# Altium footprint library BusinessCard.PcbLib: 2 footprints
Each footprint in its own frame and in the unit in brackets; x right, y up, seen from the top. Pads: shape width x height; smd on the part's side, far side on the other; paste and mask are expansions set on the pad; w line width, h text height; cw(c..) or ccw(c..) is an arc to the next point about the centre after c.
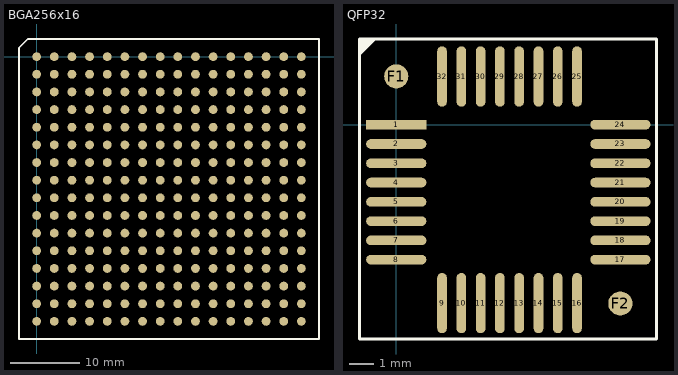
[diagram p0: the footprints below, top view; thin cyan lines are the x and y axes]

## BGA256x16 [mil]
pads (256):
  round 50 smd: A1(0,0) A2(100,0) A3(200,0) A4(300,0) A5(400,0) A6(500,0) A7(600,0) A8(700,0) A9(800,0) A10(900,0) A11(1000,0) A12(1100,0) A13(1200,0) A14(1300,0) A15(1400,0) A16(1500,0) B1(0,-100) B2(100,-100) B3(200,-100) B4(300,-100) B5(400,-100) B6(500,-100) B7(600,-100) B8(700,-100) B9(800,-100) B10(900,-100) B11(1000,-100) B12(1100,-100) B13(1200,-100) B14(1300,-100) B15(1400,-100) B16(1500,-100) C1(0,-200) C2(100,-200) C3(200,-200) C4(300,-200) C5(400,-200) C6(500,-200) C7(600,-200) C8(700,-200) C9(800,-200) C10(900,-200) C11(1000,-200) C12(1100,-200) C13(1200,-200) C14(1300,-200) C15(1400,-200) C16(1500,-200) D1(0,-300) D2(100,-300) D3(200,-300) D4(300,-300) D5(400,-300) D6(500,-300) D7(600,-300) D8(700,-300) D9(800,-300) D10(900,-300) D11(1000,-300) D12(1100,-300) D13(1200,-300) D14(1300,-300) D15(1400,-300) D16(1500,-300) E1(0,-400) E2(100,-400) E3(200,-400) E4(300,-400) E5(400,-400) E6(500,-400) E7(600,-400) E8(700,-400) E9(800,-400) E10(900,-400) E11(1000,-400) E12(1100,-400) E13(1200,-400) E14(1300,-400) E15(1400,-400) E16(1500,-400) F1(0,-500) F2(100,-500) F3(200,-500) F4(300,-500) F5(400,-500) F6(500,-500) F7(600,-500) F8(700,-500) F9(800,-500) F10(900,-500) F11(1000,-500) F12(1100,-500) F13(1200,-500) F14(1300,-500) F15(1400,-500) F16(1500,-500) G1(0,-600) G2(100,-600) G3(200,-600) G4(300,-600) G5(400,-600) G6(500,-600) G7(600,-600) G8(700,-600) G9(800,-600) G10(900,-600) G11(1000,-600) G12(1100,-600) G13(1200,-600) G14(1300,-600) G15(1400,-600) G16(1500,-600) H1(0,-700) H2(100,-700) H3(200,-700) H4(300,-700) H5(400,-700) H6(500,-700) H7(600,-700) H8(700,-700) H9(800,-700) H10(900,-700) H11(1000,-700) H12(1100,-700) H13(1200,-700) H14(1300,-700) H15(1400,-700) H16(1500,-700) J1(0,-800) J2(100,-800) J3(200,-800) J4(300,-800) J5(400,-800) J6(500,-800) J7(600,-800) J8(700,-800) J9(800,-800) J10(900,-800) J11(1000,-800) J12(1100,-800) J13(1200,-800) J14(1300,-800) J15(1400,-800) J16(1500,-800) K1(0,-900) K2(100,-900) K3(200,-900) K4(300,-900) K5(400,-900) K6(500,-900) K7(600,-900) K8(700,-900) K9(800,-900) K10(900,-900) K11(1000,-900) K12(1100,-900) K13(1200,-900) K14(1300,-900) K15(1400,-900) K16(1500,-900) L1(0,-1000) L2(100,-1000) L3(200,-1000) L4(300,-1000) L5(400,-1000) L6(500,-1000) L7(600,-1000) L8(700,-1000) L9(800,-1000) L10(900,-1000) L11(1000,-1000) L12(1100,-1000) L13(1200,-1000) L14(1300,-1000) L15(1400,-1000) L16(1500,-1000) M1(0,-1100) M2(100,-1100) M3(200,-1100) M4(300,-1100) M5(400,-1100) M6(500,-1100) M7(600,-1100) M8(700,-1100) M9(800,-1100) M10(900,-1100) M11(1000,-1100) M12(1100,-1100) M13(1200,-1100) M14(1300,-1100) M15(1400,-1100) M16(1500,-1100) N1(0,-1200) N2(100,-1200) N3(200,-1200) N4(300,-1200) N5(400,-1200) N6(500,-1200) N7(600,-1200) N8(700,-1200) N9(800,-1200) N10(900,-1200) N11(1000,-1200) N12(1100,-1200) N13(1200,-1200) N14(1300,-1200) N15(1400,-1200) N16(1500,-1200) P1(0,-1300) P2(100,-1300) P3(200,-1300) P4(300,-1300) P5(400,-1300) P6(500,-1300) P7(600,-1300) P8(700,-1300) P9(800,-1300) P10(900,-1300) P11(1000,-1300) P12(1100,-1300) P13(1200,-1300) P14(1300,-1300) P15(1400,-1300) P16(1500,-1300) R1(0,-1400) R2(100,-1400) R3(200,-1400) R4(300,-1400) R5(400,-1400) R6(500,-1400) R7(600,-1400) R8(700,-1400) R9(800,-1400) R10(900,-1400) R11(1000,-1400) R12(1100,-1400) R13(1200,-1400) R14(1300,-1400) R15(1400,-1400) R16(1500,-1400) T1(0,-1500) T2(100,-1500) T3(200,-1500) T4(300,-1500) T5(400,-1500) T6(500,-1500) T7(600,-1500) T8(700,-1500) T9(800,-1500) T10(900,-1500) T11(1000,-1500) T12(1100,-1500) T13(1200,-1500) T14(1300,-1500) T15(1400,-1500) T16(1500,-1500)
Top Overlay:
  lines w10: -100,-1600 -100,50 -50,100 1600,100 1600,-1600 -100,-1600

## QFP32 [mm]
height 1.2
pads (34):
  rect 2.5x0.4 smd: 1(0,0)
  oval 2.5x0.4 smd: 2(0,-0.8) 3(0,-1.6) 4(0,-2.4) 5(0,-3.2) 6(0,-4) 7(0,-4.8) 8(0,-5.6) 17(9.3,-5.6) 18(9.3,-4.8) 19(9.3,-4) 20(9.3,-3.2) 21(9.3,-2.4) 22(9.3,-1.6) 23(9.3,-0.8) 24(9.3,0)
  oval 0.4x2.5 smd: 9(1.9,-7.4) 10(2.7,-7.4) 11(3.5,-7.4) 12(4.3,-7.4) 13(5.1,-7.4) 14(5.9,-7.4) 15(6.7,-7.4) 16(7.5,-7.4) 25(7.5,2) 26(6.7,2) 27(5.9,2) 28(5.1,2) 29(4.3,2) 30(3.5,2) 31(2.7,2) 32(1.9,2)
  round 1 smd: F1(0,2.007) F2(9.296,-7.417)
Top Overlay:
  lines w0.127: -0.889,3.556 -1.524,2.921 -1.524,3.048 -1.016,3.556 -1.143,3.556 -1.524,3.175 -1.524,3.302 -1.27,3.556 -1.524,3.556 ; -1.524,3.556 -1.487,3.556 ; -1.524,3.556 10.795,3.556 10.795,-8.89 -1.524,-8.89 -1.524,3.556 ; -1.487,3.556 -1.487,3.429 -1.442,3.384 -1.315,3.384 -1.487,3.556
3D body "User Library-TQFP-32.STEP": height 1.4, standoff -0.06, extent 0.199,-7.294 9.199,1.706